# Altium schematic symbol library GENERIC_D_ZENER.SchLib: 1 symbol
Pins are listed as number, name and electrical type; pins without a type are passive.

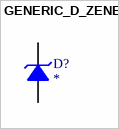
[diagram p0: symbol GENERIC_D_ZENER]

## GENERIC_D_ZENER
designator D?
pins: 1 K, 2 A